# Altium schematic symbol library SCH - LOGIC - SN74LVC2GU04DCKR.SchLib: 1 symbol
Pins are listed as number, name and electrical type; pins without a type are passive.

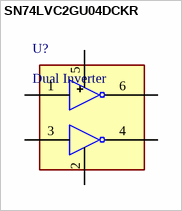
[diagram p0: symbol SN74LVC2GU04DCKR]

## SN74LVC2GU04DCKR
designator U?, comment Dual Inverter
This dual inverter is designed for 1.65-V to 5.5-V VCC / operation.
pins: 1 IN1, 2 GND, 3 IN2, 4 OUT2, 5 VCC, 6 OUT1